# EAGLE library part HBJ-2H101NLF (library Domino)
Dual RJ45 Modular Connector with 10/100Base-TX Transformer, no LED
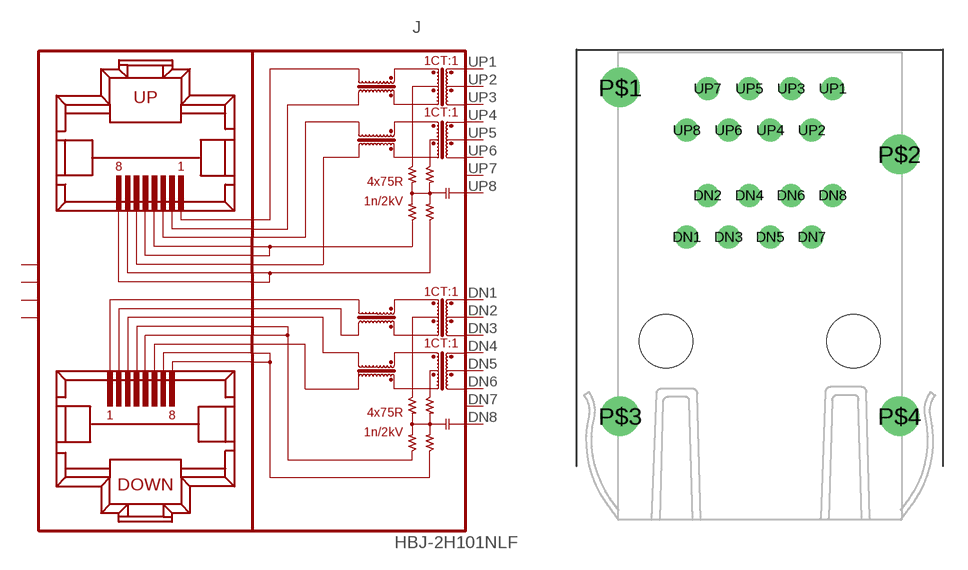
[diagram p43: symbol with the pads of HBJ-2H101NLF; footprint HBJ-2H101NLF]

Designator prefix J

## HBJ-2H101NLF  [HBJ-2H101NLF]
DN1  DR1  pas
DN2  DR2  pas
DN3  DR3  pas
DN4  DR4  pas
DN5  DR5  pas
DN6  DR6  pas
DN7  DR7  nc
DN8  DR8  pwr
P$1  SHIELD  pwr
P$2  SHIELD  pwr
P$3  SHIELD  pwr
P$4  SHIELD  pwr
UP1  UR1  pas
UP2  UR2  pas
UP3  UR3  pas
UP4  UR4  pas
UP5  UR5  pas
UP6  UR6  pas
UP7  UR7  nc
UP8  UR8  pwr

## Footprint HBJ-2H101NLF (pad centres in mm)
Dual RJ45 Modular Connector with 10/100Base-TX Transformer, no LED
drill 0.89: DN1 -4.445,6.35; DN2 -3.175,8.89; DN3 -1.905,6.35; DN4 -0.635,8.89; DN5 0.635,6.35; DN6 1.905,8.89; DN7 3.175,6.35; DN8 4.445,8.89; UP1 4.445,15.4; UP2 3.175,12.86; UP3 1.905,15.4; UP4 0.635,12.86; UP5 -0.635,15.4; UP6 -1.905,12.86; UP7 -3.175,15.4; UP8 -4.445,12.86
drill 1.6: P$1 -8.51,15.47; P$2 8.51,11.4; P$3 -8.51,-4.57; P$4 8.51,-4.57
hole 3.25 at 5.715,0
hole 3.25 at -5.715,0